# EAGLE library part CPC1907B (library CPC1907B)
60v, 0.06 Ohm Ac/Dc, 1-Form-a, Opto Semiconductor Ic, Power SOIC Check prices <https://pricing.snapeda.com/parts/CPC1907B/IXYS%20Integrated/view-part?ref=eda>
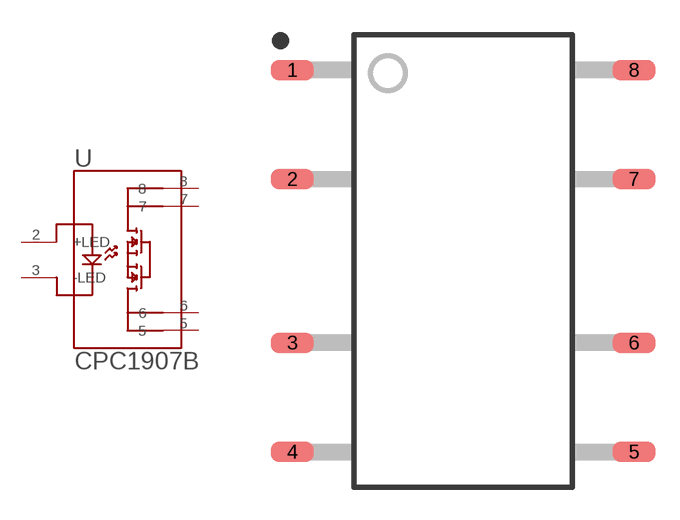
[diagram p0: symbol with the pads of SOP508P1676X356-8N; footprint SOP508P1676X356-8N]

Designator prefix U

## CPC1907B (Availability: Good; Description: Solid State SPST-NO (1 Form A) 8-SOP (0.400, 10.16mm Width); MF: IXYS Integrated; MP: CPC1907B; Package: SOIC-8 IXYS; Price: None; Purchase-URL: https://pricing.snapeda.com/search/part/CPC1907B/?ref=eda)  [SOP508P1676X356-8N]
2  +LED  pas
3  -LED  pas
5  5  pas
6  6  pas
7  7  pas
8  8  pas

## Footprint SOP508P1676X356-8N (pad centres in mm)
60v, 0.06 Ohm Ac/Dc, 1-Form-a, Opto Semiconductor Ic, Power SOIC
smd 2 x 0.95: 1 -7.95,8.89; 2 -7.95,3.81; 3 -7.95,-3.81; 4 -7.95,-8.89; 5 7.95,-8.89; 6 7.95,-3.81; 7 7.95,3.81; 8 7.95,8.89